# Altium schematic symbol library Schematic Diagrams.SchLib: 401 symbols (part 6 of 11)
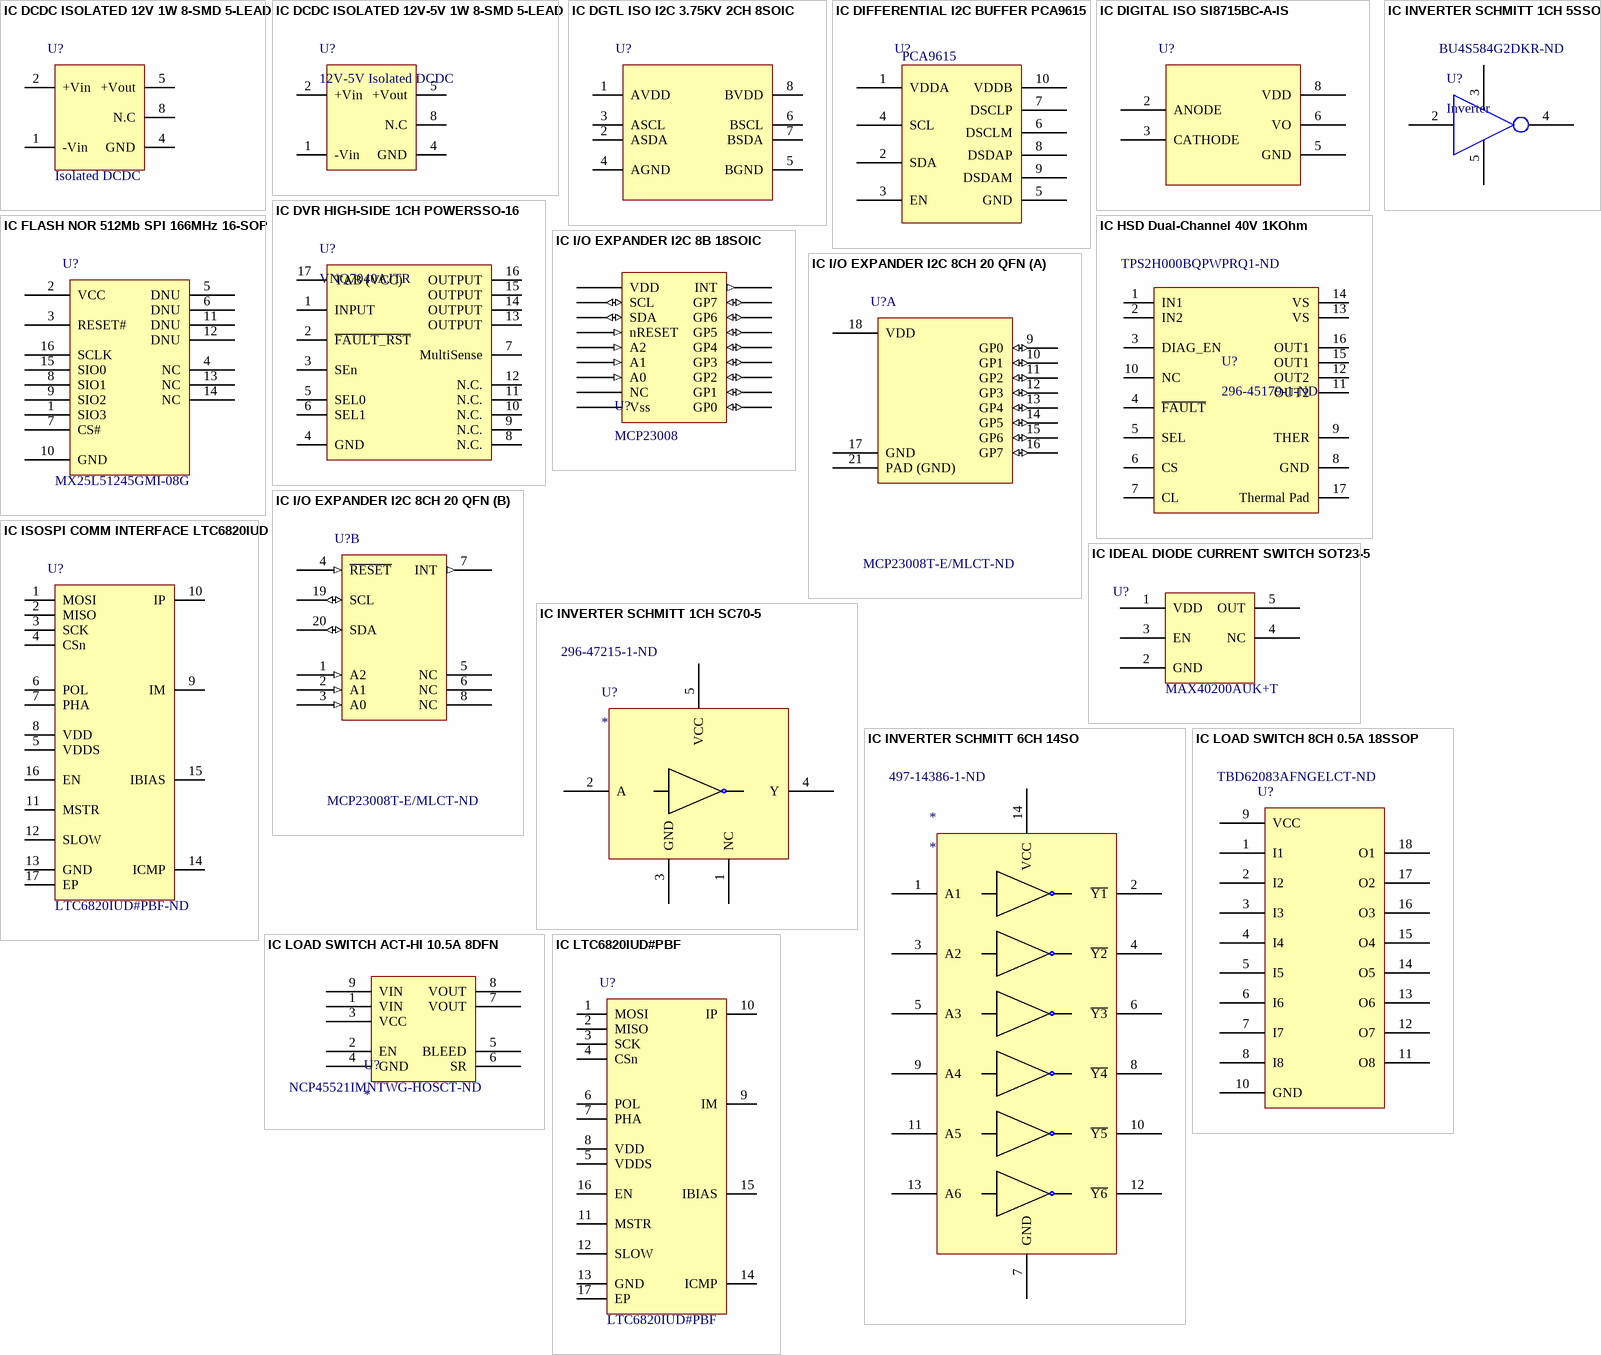
[diagram p19: symbols IC DCDC ISOLATED 12V 1W 8-SMD 5-LEAD to IC LTC6820IUD#PBF]

## IC INVERTER SCHMITT 1CH 5SSOP
designator U?, comment Inverter  Supplier Part Number 1: BU4S584G2DKR-ND
Inverter IC 1 Channel Schmitt Trigger 5-SSOP; Manufacturer: Rohm; Manufacturer Part Number: BU4S584G2-TR; Number of Inputs: 1; Min Supply Voltage: 3V; Max Supply Voltage: 16V; Logic Function: Schmitt Trigger,Buffer,Inverter; Propagation Delay: 50ns; Quiescent Current: 1uA; High Level Output Current: 3.4mA; Supplier 1: Digi-Key; Stock 1: 28906; Pricing 1: 1=0.68, 10=0.571, 25=0.4996, 100=0.4283, 250=0.37116, 500=0.31406, 1000=0.24269 (USD); Mount: Surface Mount; Case/Package: SSOP; Number of Pins: 5; Contact Plating: Copper,Tin; Min Operating Temperature: -40°C; Max Operating Temperature: 85°C; Packaging: Tape and Reel; Number of Elements: 1; Package Quantity: 3000; Number of Circuits: 1; Low Level Output Current: 3.4mA; Turn-On Delay Time: 50ns; Number of Gates: 1; Radiation Hardening: No; REACH SVHC: Unknown; Lead Free: Lead Free; ComponentLink1URL: https://datasheet.ciiva.com/16203/bu4s584g2-e-16203782.pdf; ComponentLink1Description: https://datasheet.ciiva.com/16203/bu4s584g2-e-16203782.pdf; ComponentLink2URL: https://datasheet.ciiva.com/8247/bu4s01g2-e-8247480.pdf; ComponentLink2Description: https://datasheet.ciiva.com/8247/bu4s01g2-e-8247480.pdf; ComponentLink3URL: https://datasheet.ciiva.com/1863/bu4s01g2-e-1863485.pdf; ComponentLink3Description: https://datasheet.ciiva.com/1863/bu4s01g2-e-1863485.pdf; ComponentLink4URL: https://datasheet.ciiva.com/1863/bu4s01g2-e-1863486.pdf; ComponentLink4Description: https://datasheet.ciiva.com/1863/bu4s01g2-e-1863486.pdf; ComponentLink5URL: https://datasheet.ciiva.com/15089/getdatasheetpartid-451247-15089726.pdf; ComponentLink5Description: https://datasheet.ciiva.com/15089/getdatasheetpartid-451247-15089726.pdf; ComponentLink6URL: https://datasheet.ciiva.com/1863/bu4s01g2-e-1863487.pdf; ComponentLink6Description: https://datasheet.ciiva.com/1863/bu4s01g2-e-1863487.pdf; ComponentLink7URL: https://datasheet.ciiva.com/26865/bu4s584g2-tr-26865344.pdf; ComponentLink7Description: https://datasheet.ciiva.com/26865/bu4s584g2-tr-26865344.pdf; ComponentLink8URL: https://datasheet.ciiva.com/26326/140506-da-01-en-ic-bu4s584g2-tr-ssop5-26326013.pdf; ComponentLink8Description: https://datasheet.ciiva.com/26326/140506-da-01-en-ic-bu4s584g2-tr-ssop5-26326013.pdf
footprint SSOP5 - Inverter (SSOP5, 5-Leads, Body 2.90x2.80mm, Pitch 0.95mm, IPC Medium Density)
pins: 2 B, 3 VSS, 4 Y, 5 VDD

## IC INVERTER SCHMITT 1CH SC70-5
designator U?  Supplier Part Number 1: 296-47215-1-ND
Inverter IC 1 Channel Schmitt Trigger SC-70-5; Manufacturer: Texas Instruments; Manufacturer Part Number: SN74LVC1G14QDCKRQ1; Number of Circuits: 1; Quiescent Current: 10uA; High Level Output Current: 32mA; Propagation Delay: 6ns; Supplier 1: Digi-Key; RoHS: Yes; Stock 1: 16175; Pricing 1: 1 = 0.36000, 10 = 0.29000, 100 = 0.19780, 500 = 0.14832, 1000 = 0.11124 (USD); Mount: Surface Mount; Min Operating Temperature: -40°C; Max Operating Temperature: 125°C; Packaging: Tape and Reel; Number of Inputs: 1; Low Level Output Current: 32mA; Logic Function: Inverter; Number of Bits: 1; Lead Free: Lead Free; ComponentLink1URL: http://www.ti.com/lit/ds/symlink/sn74lvc1g14-q1.pdf?src-supplier=Digi-Key; ComponentLink1Description: http://www.ti.com/lit/ds/symlink/sn74lvc1g14-q1.pdf?src-supplier=Digi-Key
footprint IC INVERTER SCHMITT 1CH SC70-5 (Inverter IC 1 Channel Schmitt Trigger SC-70-5)
pins: 1 NC, 2 A, 3 GND, 4 Y, 5 VCC

## IC INVERTER SCHMITT 6CH 14SO
designator *  Supplier Part Number 1: 497-14386-1-ND
Inverter IC 6 Channel Schmitt Trigger 14-SO; Manufacturer: STMicroelectronics; Manufacturer Part Number: M74HC14YRM13TR; Number of Inputs: 6; Propagation Delay: 21ns; Max Supply Voltage: 6V; Min Supply Voltage: 2V; Quiescent Current: 1uA; High Level Output Current: -5.2mA; Low Level Output Current: 5.2mA; Turn-On Delay Time: 190ns; ComponentLink1Description: Digikey; ComponentLink1URL: https://www.digikey.ca/product-detail/en/stmicroelectronics/M74HC14YTTR/497-14387-1-ND/4725844; ComponentLink2URL: http://www.st.com/content/ccc/resource/technical/document/datasheet/19/a3/52/42/dd/ab/4b/46/CD00000263.pdf/files/CD00000263.pdf/jcr:content/translations/en.CD00000263.pdf; ComponentLink2Description: http://www.st.com/content/ccc/resource/technical/document/datasheet/19/a3/52/42/dd/ab/4b/46/CD00000263.pdf/files/CD00000263.pdf/jcr:content/translations/en.CD00000263.pdf; ComponentLink3URL: http://www.st.com/st-web-ui/static/active/en/resource/technical/document/datasheet/CD00000263.pdf; ComponentLink3Description: http://www.st.com/st-web-ui/static/active/en/resource/technical/document/datasheet/CD00000263.pdf; ComponentLink4URL: http://www.st.com/content/ccc/resource/technical/document/datasheet/19/a3/52/42/dd/ab/4b/46/CD00000263.pdf/files/CD00000263.pdf/jcr:content/translations/en.CD00000263.pdf?src-supplier=Digi-Key; ComponentLink4Description: http://www.st.com/content/ccc/resource/technical/document/datasheet/19/a3/52/42/dd/ab/4b/46/CD00000263.pdf/files/CD00000263.pdf/jcr:content/translations/en.CD00000263.pdf?src-supplier=Digi-Key; ComponentLink5URL: http://www.st.com/st-web-ui/static/active/en/resource/technical/document/datasheet/CD00000263.pdf?src-supplier=Avnet; ComponentLink5Description: http://www.st.com/st-web-ui/static/active/en/resource/technical/document/datasheet/CD00000263.pdf?src-supplier=Avnet; Supplier 1: Digi-Key; RoHS: Yes; Stock 1: 26383; Pricing 1: 1 = 0.48000, 10 = 0.41300, 100 = 0.30860, 500 = 0.24246, 1000 = 0.18736 (USD); Mount: Surface Mount; Case/Package: SO; Number of Pins: 14; Weight: 0.009143oz; Min Operating Temperature: -40°C; Max Operating Temperature: 125°C; Package Quantity: 2500; Packaging: Tape and Reel; Logic Function: Inverter; Number of Elements: 6; Number of Circuits: 6; ComponentLink6URL: https://datasheet.ciiva.com/29626/cd00000263-29626103.pdf?src-supplier=Digi-Key; ComponentLink6Description: https://datasheet.ciiva.com/29626/cd00000263-29626103.pdf?src-supplier=Digi-Key; ComponentLink7URL: https://datasheet.ciiva.com/48438/cd00000263-48438311.pdf?src-supplier=Avnet; ComponentLink7Description: https://datasheet.ciiva.com/48438/cd00000263-48438311.pdf?src-supplier=Avnet; ComponentLink8URL: https://datasheet.ciiva.com/29626/cd00000263-29626104.pdf?src-supplier=Digi-Key; ComponentLink8Description: https://datasheet.ciiva.com/29626/cd00000263-29626104.pdf?src-supplier=Digi-Key; ComponentLink9URL: https://datasheet.ciiva.com/29626/cd00000263-29626094.pdf?src-supplier=Digi-Key; ComponentLink9Description: https://datasheet.ciiva.com/29626/cd00000263-29626094.pdf?src-supplier=Digi-Key
footprint IC INVERTER SCHMITT 6CH 14SO (Inverter IC 6 Channel Schmitt Trigger 14-SO)
pins: 1 A1, 2 ~{Y1}, 3 A2, 4 ~{Y2}, 5 A3, 6 ~{Y3}, 7 GND, 8 ~{Y4}, 9 A4, 10 ~{Y5}, 11 A5, 12 ~{Y6}, 13 A6, 14 VCC

## IC ISOSPI COMM INTERFACE LTC6820IUD
designator U?  Supplier Part Number 1: LTC6820IUD#PBF-ND  (hidden comment: *)
IC COMM INTERFACE ISOSPI 16-QFN; Manufacturer: Linear Technology; Manufacturer Part Number: LTC6820IUD#PBF; Interface: SPI; Voltage - Supply: 2.7 V ~ 5.5 V; Supplier 1: Digi-Key; RoHS: RoHS Compliant; Category: Integrated Circuits (ICs); Stock 1: 827; Pricing 1: 1=7.35, 25=4.8816, 100=4.0066 (CAD); Packaging: Tube; Part Status: Active; Applications: Isolated Communications Interface; Package / Case: 16-WFQFN Exposed Pad; Supplier Device Package: 16-QFN (3x3); Mounting Type: Surface Mount; ComponentLink1URL: http://www.linear.com/docs/42317; ComponentLink1Description: http://www.linear.com/docs/42317
footprint IC COMM INTERFACE ISOSPI 16-QFN (16-WFQFN Exposed Pad)
pins: 1 MOSI, 2 MISO, 3 SCK, 4 CSn, 5 VDDS, 6 POL, 7 PHA, 8 VDD, 9 IM, 10 IP, 11 MSTR, 12 SLOW, 13 GND, 14 ICMP, 15 IBIAS, 16 EN, 17 EP

## IC LOAD SWITCH 8CH 0.5A 18SSOP
designator U?  Supplier Part Number 1: TBD62083AFNGELCT-ND  (hidden comment: *)
IC LOAD SWITCH 8CHANNEL 0.5A 18SSOP; Manufacturer: Toshiba; Manufacturer Part Number: TBD62083AFNG,EL; Number of Outputs: 8; Interface: On/Off; Output Configuration: Low Side; ComponentLink1URL: http://www.mouser.com/ds/2/408/TBD62783APG_datasheet_en_20160511-775715.pdf?src-supplier=Mouser; ComponentLink1Description: http://www.mouser.com/ds/2/408/TBD62783APG_datasheet_en_20160511-775715.pdf?src-supplier=Mouser; ComponentLink2URL: https://toshiba.semicon-storage.com/info/docget.jsp?did=30523&prodName=TBD62783AFG&src-supplier=Digi-Key; ComponentLink2Description: https://toshiba.semicon-storage.com/info/docget.jsp?did=30523&prodName=TBD62783AFG&src-supplier=Digi-Key; ComponentLink3URL: http://www.toshiba.semicon-storage.com/info/docget.jsp?did=14247&src-supplier=Digi-Key; ComponentLink3Description: http://www.toshiba.semicon-storage.com/info/docget.jsp?did=14247&src-supplier=Digi-Key; Supplier 1: Digi-Key; RoHS: Yes; Stock 1: 61183; Pricing 1: 1 = 0.78000, 10 = 0.68500, 25 = 0.60680, 100 = 0.52840, 250 = 0.45988, 500 = 0.39140, 1000 = 0.31312 (USD); Case/Package: LSSOP; Number of Pins: 18; Min Operating Temperature: -40°C; Max Operating Temperature: 85°C; Packaging: Tape and Reel; ComponentLink4URL: https://toshiba.semicon-storage.com/info/docget.jsp?did=29893&prodName=TBD62083AFG&src-supplier=Digi-Key; ComponentLink4Description: https://toshiba.semicon-storage.com/info/docget.jsp?did=29893&prodName=TBD62083AFG&src-supplier=Digi-Key
footprint IC LOAD SWITCH 8CH 0.5A 18-SSOP (TSOP, 18-Leads, Body 6.70x4.40mm, Pitch 0.65mm, IPC Medium Density)
pins: 1 I1, 2 I2, 3 I3, 4 I4, 5 I5, 6 I6, 7 I7, 8 I8, 9 VCC, 10 GND, 11 O8, 12 O7, 13 O6, 14 O5, 15 O4, 16 O3, 17 O2, 18 O1

## IC LOAD SWITCH ACT-HI 10.5A 8DFN
designator U?  Supplier Part Number 1: NCP45521IMNTWG-HOSCT-ND
NCP45521IMNTWG-H; Manufacturer: ON Semiconductor; Max Power Dissipation: 2.5W; Number of Outputs: 1; Nominal Supply Current: 500uA; Output Current: 10.5A; On-State Resistance: 22.5mR; Turn-On Delay Time: 270us; Turn-Off Delay Time: 1.2us; Interface: On/Off; Fault Protection: Over Temperature; Operating Supply Voltage: 5.5V; Output Configuration: High Side; Supplier 1: Digi-Key; Manufacturer Part Number: NCP45521IMNTWG-H; RoHS: Yes; Pricing 1: 1 = 0.87000, 10 = 0.77400, 100 = 0.60360, 500 = 0.49864, 1000 = 0.39366 (USD); Mount: Surface Mount; Case/Package: DFN; Number of Pins: 8; Min Operating Temperature: -40°C; Max Operating Temperature: 85°C; Packaging: Tape and Reel; Package Quantity: 3000; Max Supply Current: 10.5A; Max Output Current: 10.5A; Power Dissipation: 2.5W; Radiation Hardening: No; REACH SVHC: No SVHC; Lead Free: Lead Free; Halogen Free: Halogen Free; ComponentLink1URL: http://www.mouser.com/ds/2/308/NCP45520-D-211422.pdf; ComponentLink1Description: http://www.mouser.com/ds/2/308/NCP45520-D-211422.pdf; ComponentLink2URL: http://www.onsemi.com/pub/Collateral/NCP45520-D.PDF; ComponentLink2Description: http://www.onsemi.com/pub/Collateral/NCP45520-D.PDF
footprint IC LOAD SWITCH ACT-HI 10.5A 8DFN
pins: 1 VIN, 2 EN, 3 VCC, 4 GND, 5 BLEED, 6 SR, 7 VOUT, 8 VOUT, 9 VIN

## IC LTC6820IUD#PBF
designator U?  Manufacturer_PN: LTC6820IUD#PBF  (hidden comment: *)
IC COMM INTERFACE ISOSPI 16-QFN; Manufacturer: Linear Technology; Supplier: Digikey; Supplier_PN: LTC6820IUD#PBF-ND; Supplier 1: Digi-Key; Supplier Part Number 1: LTC6820IUD#PBF-ND
pins: 1 MOSI, 2 MISO, 3 SCK, 4 CSn, 5 VDDS, 6 POL, 7 PHA, 8 VDD, 9 IM, 10 IP, 11 MSTR, 12 SLOW, 13 GND, 14 ICMP, 15 IBIAS, 16 EN, 17 EP

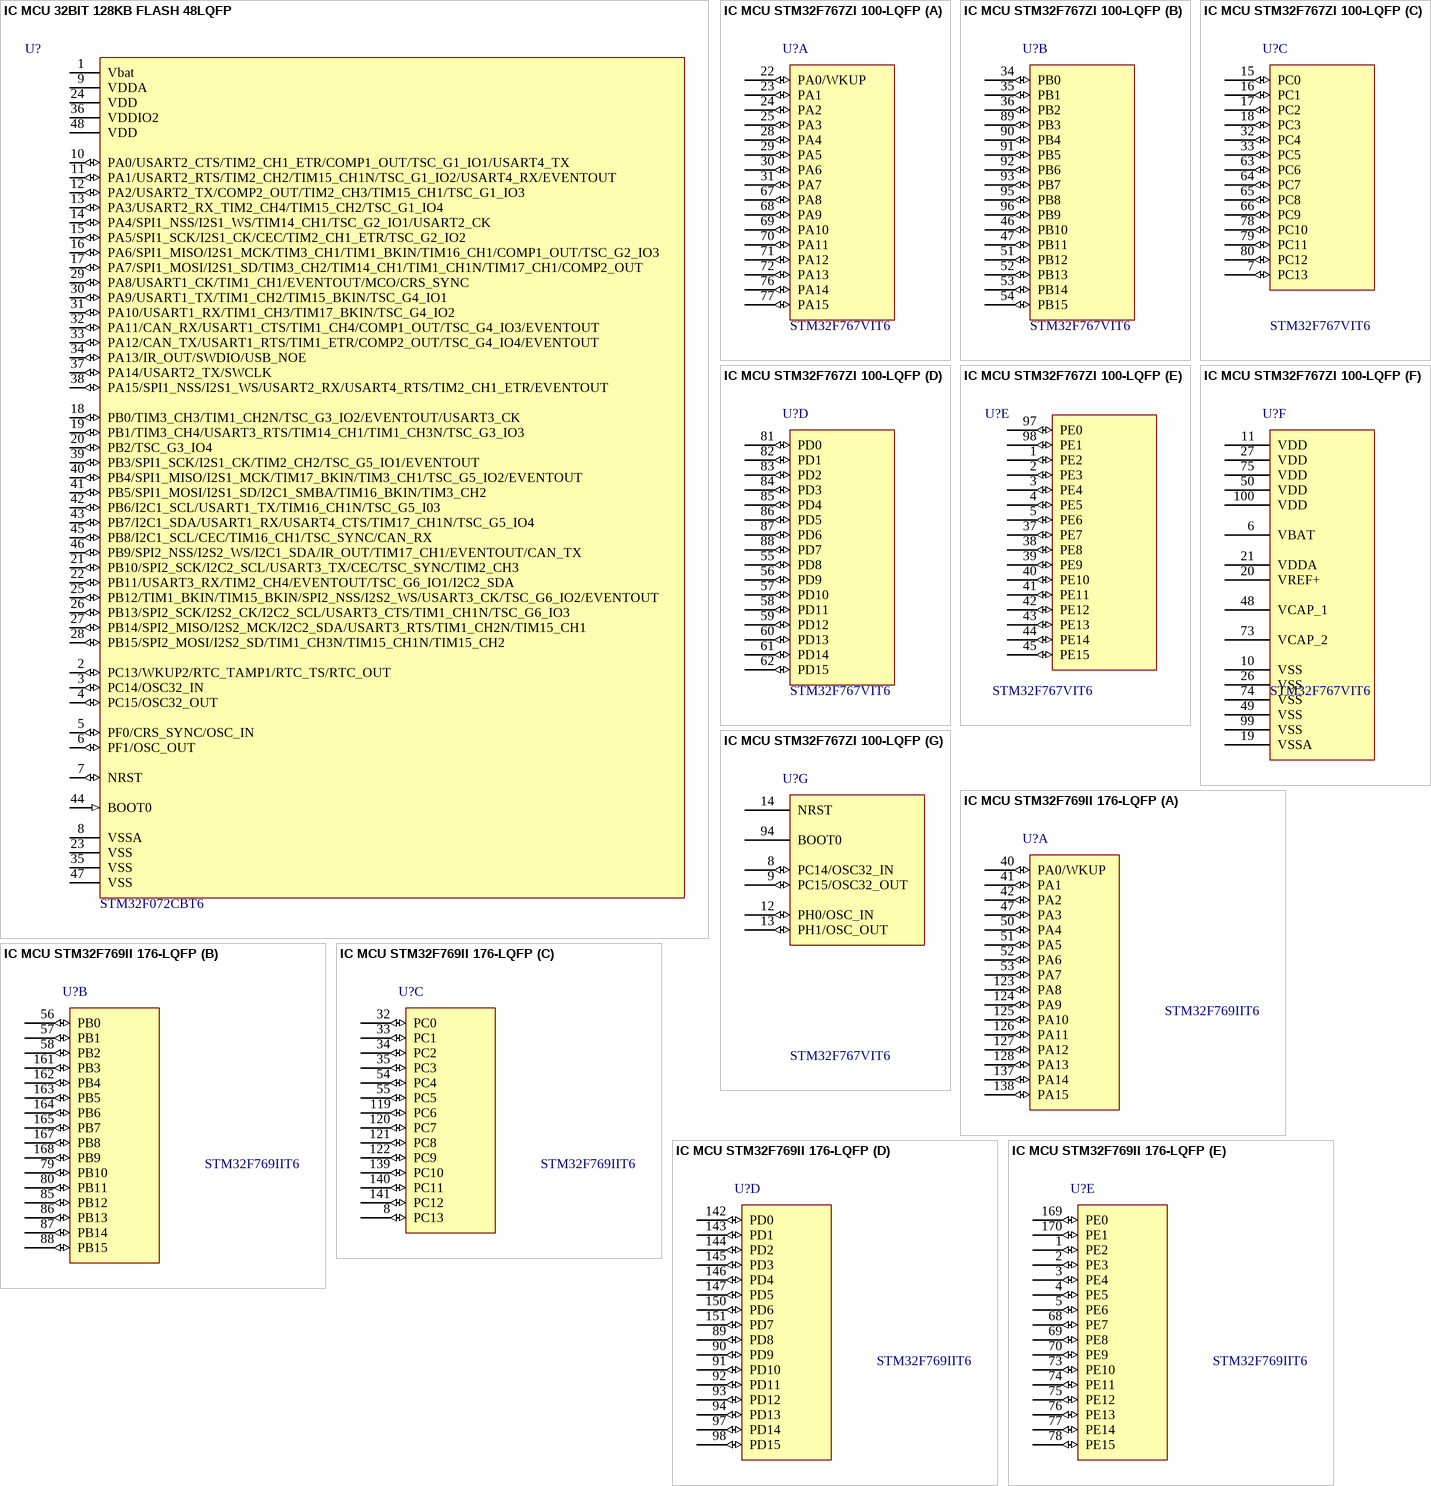
[diagram p7: symbols IC MCU 32BIT 128KB FLASH 48LQFP to IC MCU STM32F769II 176-LQFP]

## IC MCU 32BIT 128KB FLASH 48LQFP
designator U?  Manufacturer Part Number 1: STM32F072CBT6
ARM® Cortex®-M0 STM32 F0 Microcontroller IC 32-Bit 48MHz 128KB (128K x 8) FLASH 48-LQFP (7x7); Manufacturer 1: STMicroelectronics; Connectivity: CAN, HDMI-CEC, I²C, IrDA, LIN, SPI, UART/USART, USB; Peripherals: DMA, I²S, POR, PWM, WDT; Number of I/O: 37; RAM Size: 16K x 8; Voltage - Supply (Vcc/Vdd): 1.65 V ~ 3.6 V; Data Converters: A/D 10x12b, D/A 2x12b; Oscillator Type: Internal; Supplier 1: Digi-Key; Supplier Part Number 1: 497-14645-ND; Packaging: Tray; Part Status: Active; Core Processor: ARM® Cortex®-M0; Core Size: 32-Bit; Speed: 48MHz; Program Memory Size: 128KB (128K x 8); Program Memory Type: FLASH; EEPROM Size: -; Operating Temperature: -40°C ~ 85°C (TA); Package / Case: 48-LQFP; Supplier Device Package: 48-LQFP (7x7); ComponentLink1URL: http://www.st.com/content/ccc/resource/technical/document/datasheet/cd/46/43/83/22/d3/40/c8/DM00090510.pdf/files/DM00090510.pdf/jcr:content/translations/en.DM00090510.pdf; ComponentLink1Description: http://www.st.com/content/ccc/resource/technical/document/datasheet/cd/46/43/83/22/d3/40/c8/DM00090510.pdf/files/DM00090510.pdf/jcr:content/translations/en.DM00090510.pdf
footprint TSQFP50P890X890X160-48M (TSQFP, 48-Leads, Body 7.00x7.00mm, Pitch 0.50mm, IPC Low Density)
pins: 1 Vbat (power), 2 PC13/WKUP2/RTC_TAMP1/RTC_TS/RTC_OUT (io), 3 PC14/OSC32_IN (io), 4 PC15/OSC32_OUT (io), 5 PF0/CRS_SYNC/OSC_IN (io), 6 PF1/OSC_OUT (io), 7 NRST (io), 8 VSSA (power), 9 VDDA (power), 10 PA0/USART2_CTS/TIM2_CH1_ETR/COMP1_OUT/TSC_G1_IO1/USART4_TX (io), 11 PA1/USART2_RTS/TIM2_CH2/TIM15_CH1N/TSC_G1_IO2/USART4_RX/EVENTOUT (io), 12 PA2/USART2_TX/COMP2_OUT/TIM2_CH3/TIM15_CH1/TSC_G1_IO3 (io), 13 PA3/USART2_RX_TIM2_CH4/TIM15_CH2/TSC_G1_IO4 (io), 14 PA4/SPI1_NSS/I2S1_WS/TIM14_CH1/TSC_G2_IO1/USART2_CK (io), 15 PA5/SPI1_SCK/I2S1_CK/CEC/TIM2_CH1_ETR/TSC_G2_IO2 (io), 16 PA6/SPI1_MISO/I2S1_MCK/TIM3_CH1/TIM1_BKIN/TIM16_CH1/COMP1_OUT/TSC_G2_IO3 (io), 17 PA7/SPI1_MOSI/I2S1_SD/TIM3_CH2/TIM14_CH1/TIM1_CH1N/TIM17_CH1/COMP2_OUT (io), 18 PB0/TIM3_CH3/TIM1_CH2N/TSC_G3_IO2/EVENTOUT/USART3_CK (io), 19 PB1/TIM3_CH4/USART3_RTS/TIM14_CH1/TIM1_CH3N/TSC_G3_IO3 (io), 20 PB2/TSC_G3_IO4 (io), 21 PB10/SPI2_SCK/I2C2_SCL/USART3_TX/CEC/TSC_SYNC/TIM2_CH3 (io), 22 PB11/USART3_RX/TIM2_CH4/EVENTOUT/TSC_G6_IO1/I2C2_SDA (io), 23 VSS (power), 24 VDD (power), 25 PB12/TIM1_BKIN/TIM15_BKIN/SPI2_NSS/I2S2_WS/USART3_CK/TSC_G6_IO2/EVENTOUT (io), 26 PB13/SPI2_SCK/I2S2_CK/I2C2_SCL/USART3_CTS/TIM1_CH1N/TSC_G6_IO3 (io), 27 PB14/SPI2_MISO/I2S2_MCK/I2C2_SDA/USART3_RTS/TIM1_CH2N/TIM15_CH1 (io), 28 PB15/SPI2_MOSI/I2S2_SD/TIM1_CH3N/TIM15_CH1N/TIM15_CH2 (io), 29 PA8/USART1_CK/TIM1_CH1/EVENTOUT/MCO/CRS_SYNC (io), 30 PA9/USART1_TX/TIM1_CH2/TIM15_BKIN/TSC_G4_IO1 (io), 31 PA10/USART1_RX/TIM1_CH3/TIM17_BKIN/TSC_G4_IO2 (io), 32 PA11/CAN_RX/USART1_CTS/TIM1_CH4/COMP1_OUT/TSC_G4_IO3/EVENTOUT (io), 33 PA12/CAN_TX/USART1_RTS/TIM1_ETR/COMP2_OUT/TSC_G4_IO4/EVENTOUT (io), 34 PA13/IR_OUT/SWDIO/USB_NOE (io), 35 VSS (power), 36 VDDIO2 (power), 37 PA14/USART2_TX/SWCLK (io), 38 PA15/SPI1_NSS/I2S1_WS/USART2_RX/USART4_RTS/TIM2_CH1_ETR/EVENTOUT (io), 39 PB3/SPI1_SCK/I2S1_CK/TIM2_CH2/TSC_G5_IO1/EVENTOUT (io), 40 PB4/SPI1_MISO/I2S1_MCK/TIM17_BKIN/TIM3_CH1/TSC_G5_IO2/EVENTOUT (io), 41 PB5/SPI1_MOSI/I2S1_SD/I2C1_SMBA/TIM16_BKIN/TIM3_CH2 (io), 42 PB6/I2C1_SCL/USART1_TX/TIM16_CH1N/TSC_G5_I03 (io), 43 PB7/I2C1_SDA/USART1_RX/USART4_CTS/TIM17_CH1N/TSC_G5_IO4 (io), 44 BOOT0 (in), 45 PB8/I2C1_SCL/CEC/TIM16_CH1/TSC_SYNC/CAN_RX (io), 46 PB9/SPI2_NSS/I2S2_WS/I2C1_SDA/IR_OUT/TIM17_CH1/EVENTOUT/CAN_TX (io), 47 VSS (power), 48 VDD (power)

## IC MCU STM32F767ZI 100-LQFP
designator U?  Manufacturer Part Number: STM32F767VIT6  (hidden comment: *)
ARM® Cortex®-M7 STM32F7 Microcontroller IC 32-Bit 216MHz 2MB (2M x 8) FLASH 100-LQFP (14x14); Manufacturer: STMicroelectronics; RAM Size: 512KB; Number of I/Os: 82; Min Supply Voltage: 1.7V; Max Supply Voltage: 3.6V; Supplier 1: Digi-Key; Supplier Part Number 1: 497-16643-ND; Stock 1: 2856; Pricing 1: 1 = 15.00000, 10 = 13.79000, 100 = 11.64640, 540 = 10.36026 (USD); RoHS: No; Case/Package: LQFP; Number of Pins: 100; Frequency: 216MHz; Memory Size: 2MB; REACH SVHC: No SVHC; ComponentLink1URL: http://farnell.com//datasheets/2282439.pdf?src-supplier=Farnell; ComponentLink1Description: http://farnell.com//datasheets/2282439.pdf?src-supplier=Farnell; ComponentLink2URL: http://www.farnell.com/datasheets/2034586.pdf?src-supplier=Element14; ComponentLink2Description: http://www.farnell.com/datasheets/2034586.pdf?src-supplier=Element14; ComponentLink3URL: http://www.st.com/content/ccc/resource/technical/document/datasheet/group3/c5/37/9c/1d/a6/09/4e/1a/DM00273119/files/DM00273119.pdf/jcr:content/translations/en.DM00273119.pdf?src-supplier=Digi-Key; ComponentLink3Description: http://www.st.com/content/ccc/resource/technical/document/datasheet/group3/c5/37/9c/1d/a6/09/4e/1a/DM00273119/files/DM00273119.pdf/jcr:content/translations/en.DM00273119.pdf?src-supplier=Digi-Key
footprint IC MCU STM32F767 100-LQFP (CQFP, 100-Leads, Body 16.00x16.00mm, Pitch 0.50mm, IPC Low Density)
part A pins: 22 PA0/WKUP (io), 23 PA1 (io), 24 PA2 (io), 25 PA3 (io), 28 PA4 (io), 29 PA5 (io), 30 PA6 (io), 31 PA7 (io), 67 PA8 (io), 68 PA9 (io), 69 PA10 (io), 70 PA11 (io), 71 PA12 (io), 72 PA13 (io), 76 PA14 (io), 77 PA15 (io)
part B pins: 34 PB0 (io), 35 PB1 (io), 36 PB2 (io), 46 PB10 (io), 47 PB11 (io), 51 PB12 (io), 52 PB13 (io), 53 PB14 (io), 54 PB15 (io), 89 PB3 (io), 90 PB4 (io), 91 PB5 (io), 92 PB6 (io), 93 PB7 (io), 95 PB8 (io), 96 PB9 (io)
part C pins: 7 PC13 (io), 15 PC0 (io), 16 PC1 (io), 17 PC2 (io), 18 PC3 (io), 32 PC4 (io), 33 PC5 (io), 63 PC6 (io), 64 PC7 (io), 65 PC8 (io), 66 PC9 (io), 78 PC10 (io), 79 PC11 (io), 80 PC12 (io)
part D pins: 55 PD8 (io), 56 PD9 (io), 57 PD10 (io), 58 PD11 (io), 59 PD12 (io), 60 PD13 (io), 61 PD14 (io), 62 PD15 (io), 81 PD0 (io), 82 PD1 (io), 83 PD2 (io), 84 PD3 (io), 85 PD4 (io), 86 PD5 (io), 87 PD6 (io), 88 PD7 (io)
part E pins: 1 PE2 (io), 2 PE3 (io), 3 PE4 (io), 4 PE5 (io), 5 PE6 (io), 37 PE7 (io), 38 PE8 (io), 39 PE9 (io), 40 PE10 (io), 41 PE11 (io), 42 PE12 (io), 43 PE13 (io), 44 PE14 (io), 45 PE15 (io), 97 PE0 (io), 98 PE1 (io)
part F pins: 6 VBAT (power), 10 VSS (power), 11 VDD (power), 19 VSSA (power), 20 VREF+ (power), 21 VDDA (power), 26 VSS (power), 27 VDD (power), 48 VCAP_1 (power), 49 VSS (power), 50 VDD (power), 73 VCAP_2 (power), 74 VSS (power), 75 VDD (power), 99 VSS (power), 100 VDD (power)
part G pins: 8 PC14/OSC32_IN (io), 9 PC15/OSC32_OUT (io), 12 PH0/OSC_IN (io), 13 PH1/OSC_OUT (io), 14 NRST, 94 BOOT0

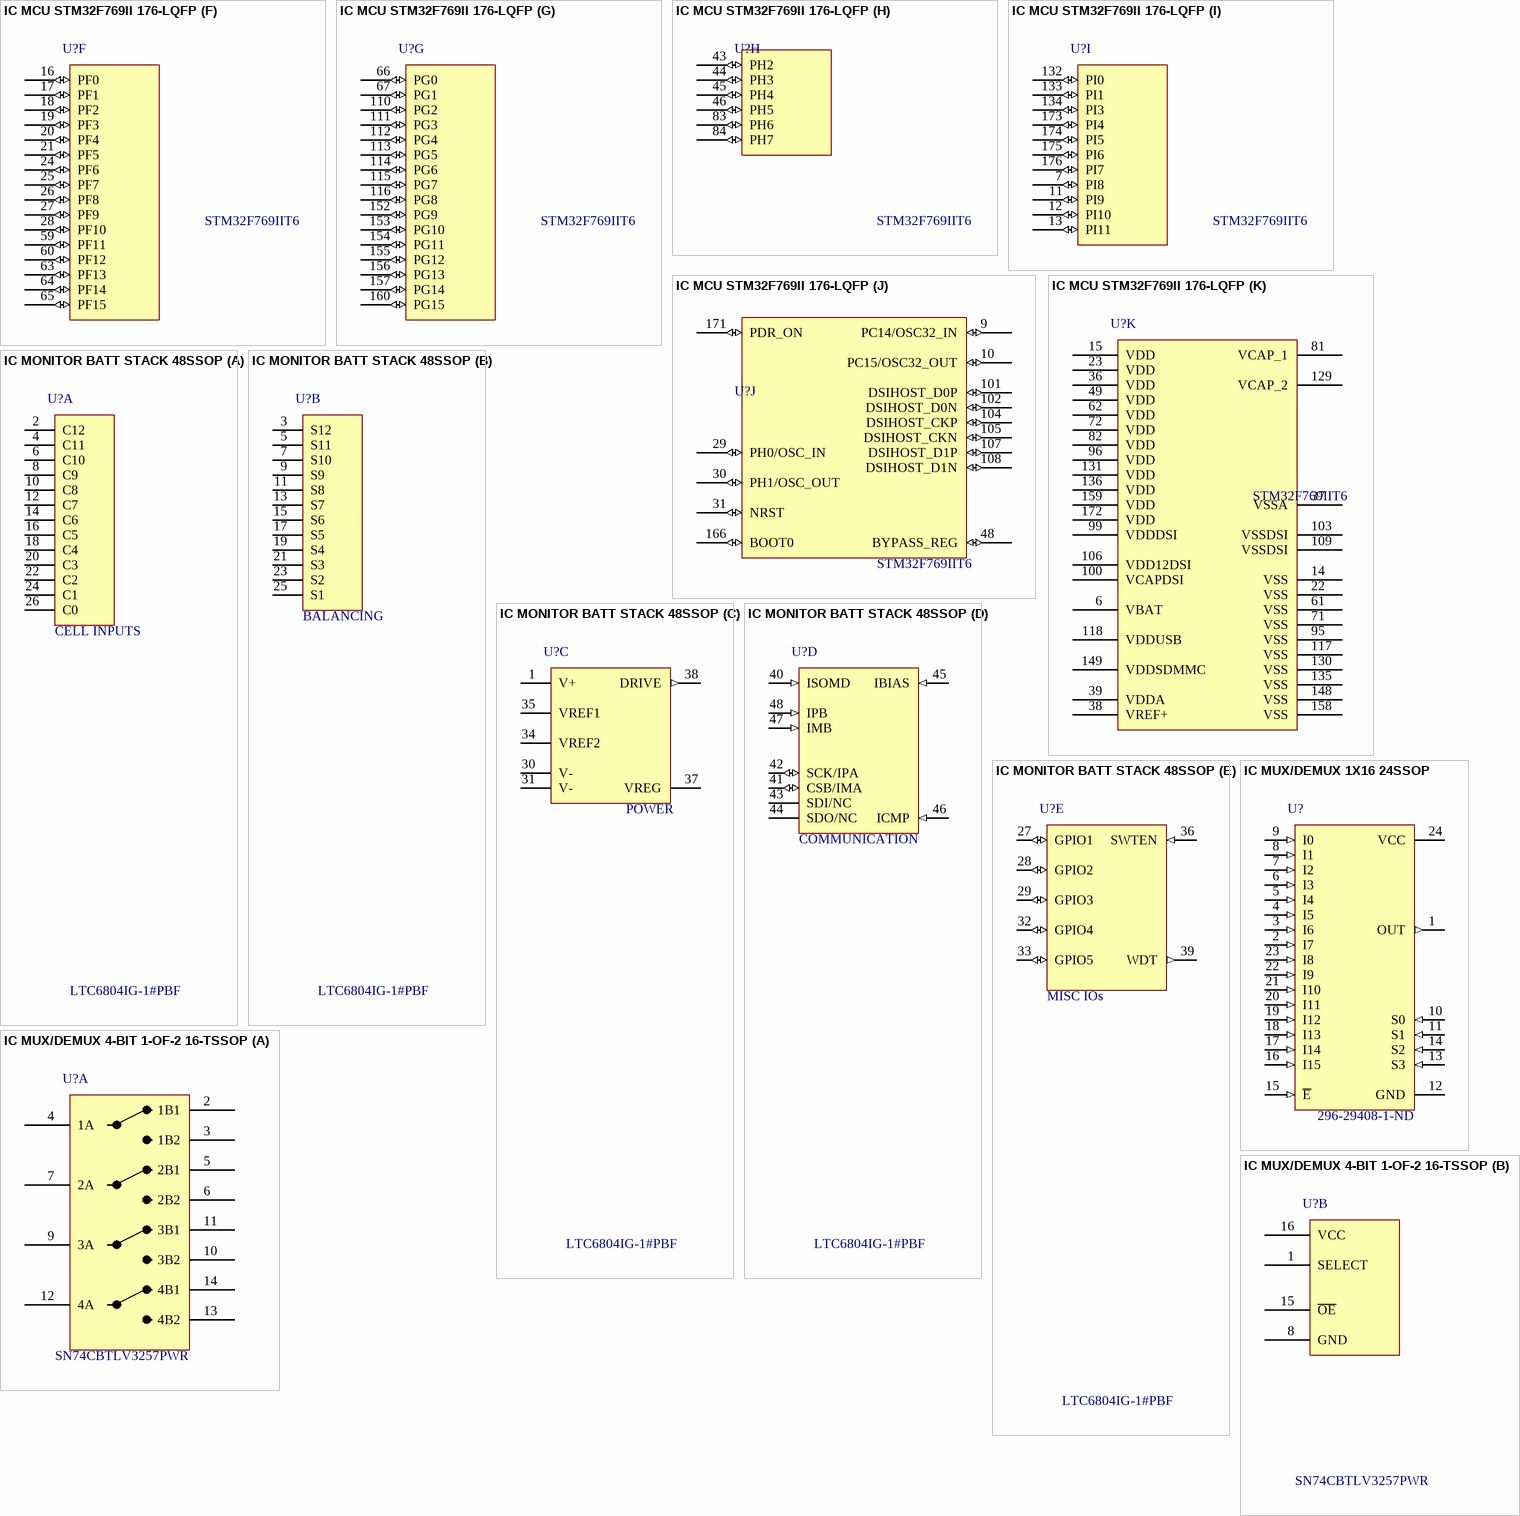
[diagram p8: symbols IC MCU STM32F769II 176-LQFP to IC MUX/DEMUX 4-BIT 1-OF-2 16-TSSOP]

## IC MCU STM32F769II 176-LQFP
designator U?  Manufacturer Part Number: STM32F769IIT6  (hidden comment: *)
ARM® Cortex®-M7 STM32F7 Microcontroller IC 32-Bit 216MHz 2MB (2M x 8) FLASH 176-LQFP (24x24); Manufacturer: STMicroelectronics; Supplier 1: Digi-Key; RoHS: No; Category: Microcontrollers; Stock 1: 295; Pricing 1: 1=12.69000, 10=11.66300, 25=11.18000, 100=9.85040, 250=9.36696, 500=8.76264, 1000=8.03746 (USD); ComponentLink1URL: http://www.st.com/content/ccc/resource/technical/document/errata_sheet/group0/23/a6/11/0b/30/24/46/a5/DM00257543/files/DM00257543.pdf/jcr:content/translations/en.DM00257543.pdf?src-supplier=Digi-Key; ComponentLink1Description: http://www.st.com/content/ccc/resource/technical/document/errata_sheet/group0/23/a6/11/0b/30/24/46/a5/DM00257543/files/DM00257543.pdf/jcr:content/translations/en.DM00257543.pdf?src-supplier=Digi-Key; Supplier Part Number 1: 497-16649-ND
footprint TSQFP50P2600X2600X160-176M (TSQFP, 176-Leads, Body 24.00x24.00mm, Pitch 0.50mm, IPC Low Density)
part A pins: 40 PA0/WKUP (io), 41 PA1 (io), 42 PA2 (io), 47 PA3 (io), 50 PA4 (io), 51 PA5 (io), 52 PA6 (io), 53 PA7 (io), 123 PA8 (io), 124 PA9 (io), 125 PA10 (io), 126 PA11 (io), 127 PA12 (io), 128 PA13 (io), 137 PA14 (io), 138 PA15 (io)
part B pins: 56 PB0 (io), 57 PB1 (io), 58 PB2 (io), 79 PB10 (io), 80 PB11 (io), 85 PB12 (io), 86 PB13 (io), 87 PB14 (io), 88 PB15 (io), 161 PB3 (io), 162 PB4 (io), 163 PB5 (io), 164 PB6 (io), 165 PB7 (io), 167 PB8 (io), 168 PB9 (io)
part C pins: 8 PC13 (io), 32 PC0 (io), 33 PC1 (io), 34 PC2 (io), 35 PC3 (io), 54 PC4 (io), 55 PC5 (io), 119 PC6 (io), 120 PC7 (io), 121 PC8 (io), 122 PC9 (io), 139 PC10 (io), 140 PC11 (io), 141 PC12 (io)
part D pins: 89 PD8 (io), 90 PD9 (io), 91 PD10 (io), 92 PD11 (io), 93 PD12 (io), 94 PD13 (io), 97 PD14 (io), 98 PD15 (io), 142 PD0 (io), 143 PD1 (io), 144 PD2 (io), 145 PD3 (io), 146 PD4 (io), 147 PD5 (io), 150 PD6 (io), 151 PD7 (io)
part E pins: 1 PE2 (io), 2 PE3 (io), 3 PE4 (io), 4 PE5 (io), 5 PE6 (io), 68 PE7 (io), 69 PE8 (io), 70 PE9 (io), 73 PE10 (io), 74 PE11 (io), 75 PE12 (io), 76 PE13 (io), 77 PE14 (io), 78 PE15 (io), 169 PE0 (io), 170 PE1 (io)
part F pins: 16 PF0 (io), 17 PF1 (io), 18 PF2 (io), 19 PF3 (io), 20 PF4 (io), 21 PF5 (io), 24 PF6 (io), 25 PF7 (io), 26 PF8 (io), 27 PF9 (io), 28 PF10 (io), 59 PF11 (io), 60 PF12 (io), 63 PF13 (io), 64 PF14 (io), 65 PF15 (io)
part G pins: 66 PG0 (io), 67 PG1 (io), 110 PG2 (io), 111 PG3 (io), 112 PG4 (io), 113 PG5 (io), 114 PG6 (io), 115 PG7 (io), 116 PG8 (io), 152 PG9 (io), 153 PG10 (io), 154 PG11 (io), 155 PG12 (io), 156 PG13 (io), 157 PG14 (io), 160 PG15 (io)
part H pins: 43 PH2 (io), 44 PH3 (io), 45 PH4 (io), 46 PH5 (io), 83 PH6 (io), 84 PH7 (io)
part I pins: 7 PI8 (io), 11 PI9 (io), 12 PI10 (io), 13 PI11 (io), 132 PI0 (io), 133 PI1 (io), 134 PI3 (io), 173 PI4 (io), 174 PI5 (io), 175 PI6 (io), 176 PI7 (io)
part J pins: 9 PC14/OSC32_IN (io), 10 PC15/OSC32_OUT (io), 29 PH0/OSC_IN (io), 30 PH1/OSC_OUT (io), 31 NRST (io), 48 BYPASS_REG (io), 101 DSIHOST_D0P (io), 102 DSIHOST_D0N (io), 104 DSIHOST_CKP (io), 105 DSIHOST_CKN (io), 107 DSIHOST_D1P (io), 108 DSIHOST_D1N (io), 166 BOOT0 (io), 171 PDR_ON (io)
part K pins: 6 VBAT (power), 14 VSS (power), 15 VDD (power), 22 VSS (power), 23 VDD (power), 36 VDD (power), 37 VSSA (power), 38 VREF+ (power), 39 VDDA (power), 49 VDD (power), 61 VSS (power), 62 VDD (power), 71 VSS (power), 72 VDD (power), 81 VCAP_1 (power), 82 VDD (power), 95 VSS (power), 96 VDD (power), 99 VDDDSI (power), 100 VCAPDSI (power), 103 VSSDSI (power), 106 VDD12DSI (power), 109 VSSDSI (power), 117 VSS (power), 118 VDDUSB (power), 129 VCAP_2 (power), 130 VSS (power), 131 VDD (power), 135 VSS (power), 136 VDD (power), 148 VSS (power), 149 VDDSDMMC (power), 158 VSS (power), 159 VDD (power), 172 VDD (power)

## IC MONITOR BATT STACK 48SSOP
designator U?  Manufacturer Part Number 1: LTC6804IG-1#PBF
Battery Battery Monitor IC Multi-Chemistry 48-SSOP; Manufacturer 1: Linear Technology; Number of Cells: 1 ~ 12; Fault Protection: Over/Under Voltage; Interface: I²C, SPI; Supplier 1: Digi-Key; Supplier Part Number 1: LTC6804IG-1#PBF-ND; Packaging: Tube; Part Status: Active; Function: Battery Monitor; Battery Chemistry: Multi-Chemistry; Operating Temperature: -40°C ~ 85°C (TA); Package / Case: 48-FSOP (0.209", 5.30mm Width); Supplier Device Package: 48-SSOP; ComponentLink1URL: http://www.linear.com/docs/43171; ComponentLink1Description: http://www.linear.com/docs/43171
footprint SSOP50P780X200-48N (SSOP, 48-Leads, Body 12.80x5.30mm, Pitch 0.50mm, IPC Medium Density)
part A pins: 2 C12, 4 C11, 6 C10, 8 C9, 10 C8, 12 C7, 14 C6, 16 C5, 18 C4, 20 C3, 22 C2, 24 C1, 26 C0
part B pins: 3 S12, 5 S11, 7 S10, 9 S9, 11 S8, 13 S7, 15 S6, 17 S5, 19 S4, 21 S3, 23 S2, 25 S1
part C pins: 1 V+ (power), 30 V- (power), 31 V- (power), 34 VREF2 (power), 35 VREF1 (power), 37 VREG (power), 38 DRIVE (out)
part D pins: 40 ISOMD (in), 41 CSB/IMA (io), 42 SCK/IPA (io), 43 SDI/NC, 44 SDO/NC, 45 IBIAS (in), 46 ICMP (in), 47 IMB (in), 48 IPB (in)
part E pins: 27 GPIO1 (io), 28 GPIO2 (io), 29 GPIO3 (io), 32 GPIO4 (io), 33 GPIO5 (io), 36 SWTEN (in), 39 WDT (out)
part A text: CELL INPUTS
part B text: BALANCING
part C text: POWER
part D text: COMMUNICATION
part E text: MISC IOs

## IC MUX/DEMUX 1X16 24SSOP
designator U?  Supplier Part Number 1: 296-29408-1-ND
1 Circuit IC Switch 16:1 160 Ohm 24-SOIC; Manufacturer: Texas Instruments; Manufacturer Part Number: CD74HC4067M96; Number of Channels: 1; Number of Inputs: 16; Max Supply Voltage: 6V; Min Supply Voltage: 2V; Bandwidth: 89MHz; Propagation Delay: 75ns; On-State Resistance: 180R; Turn-On Delay Time: 300ns; Turn-Off Delay Time: 290ns; Logic Function: Demultiplexer,Multiplexer; Operating Supply Current: 8uA; Supply Type: Single; Low Level Output Current: 25mA; ComponentLink1URL: http://www.ti.com/lit/ds/symlink/cd74hc4067.pdf; ComponentLink1Description: http://www.ti.com/lit/ds/symlink/cd74hc4067.pdf; Supplier 1: Digi-Key; Stock 1: 10305; Pricing 1: 1 = 0.80000, 10 = 0.70400, 100 = 0.53940, 500 = 0.42642, 1000 = 0.34114 (USD); RoHS: Yes; Mount: Surface Mount; Case/Package: SOIC; Number of Pins: 24; Weight: 0.022025oz; Contact Plating: Matte,Tin; Min Operating Temperature: -55°C; Max Operating Temperature: 125°C; Number of Outputs: 1; Packaging: Tape and Reel; Package Quantity: 2000; Number of Circuits: 1; Nominal Supply Current: 8uA; Number of Bits: 16; High Level Output Current: 25mA; Length: 15.4mm; Height: 2.35mm; Width: 7.52mm; Radiation Hardening: No; REACH SVHC: No SVHC; Lead Free: Lead Free; ComponentLink2URL: https://www.verical.com/server-webapp/html/getDatasheet?partID=322813&src-supplier=Verical; ComponentLink2Description: https://www.verical.com/server-webapp/html/getDatasheet?partID=322813&src-supplier=Verical; ComponentLink3URL: http://focus.ti.com/lit/ds/symlink/cd74hc4067.pdf?src-supplier=Avnet+Europe; ComponentLink3Description: http://focus.ti.com/lit/ds/symlink/cd74hc4067.pdf?src-supplier=Avnet+Europe; ComponentLink4URL: http://www.ti.com/lit/ds/symlink/cd74hc4067.pdf?src-supplier=Digi-Key; ComponentLink4Description: http://www.ti.com/lit/ds/symlink/cd74hc4067.pdf?src-supplier=Digi-Key
footprint SOP127P1030X265-24N (SOP, 24-Leads, Body 15.40x7.50mm, Pitch 1.27mm, IPC Medium Density)
pins: 1 OUT (out), 2 I7 (in), 3 I6 (in), 4 I5 (in), 5 I4 (in), 6 I3 (in), 7 I2 (in), 8 I1 (in), 9 I0 (in), 10 S0 (in), 11 S1 (in), 12 GND (power), 13 S3 (in), 14 S2 (in), 15 ~{E} (in), 16 I15 (in), 17 I14 (in), 18 I13 (in), 19 I12 (in), 20 I11 (in), 21 I10 (in), 22 I9 (in), 23 I8 (in), 24 VCC (power)

## IC MUX/DEMUX 4-BIT 1-OF-2 16-TSSOP
designator U?  Manufacturer Part Number: SN74CBTLV3257PWR  (hidden comment: *)
TEXAS INSTRUMENTS         SN74CBTLV3257PWR            1 TO 2 QUAD FET MUX/DEMUX, TSSOP-16; Number of Channels: 4; Min Supply Voltage: 2.3V; Max Supply Voltage: 3.6V; Bandwidth: 200MHz; Propagation Delay: 0.25ns; Number of Inputs: 8; Logic Function: Multiplexer,Demultiplexer; Number of Elements: 1; On-State Resistance: 40R; Operating Supply Current: 10uA; High Level Output Current: -128mA; Low Level Output Current: 128mA; Turn-On Delay Time: 6.1ns; Supply Type: Single; Polarity: Non-Inverting; Throw Configuration: SPDT; Supplier 1: Digi-Key; Manufacturer: Texas Instruments; RoHS: Yes; Category: Decoders, Multiplexers; Stock 1: 31974; Pricing 1: 1=0.71000, 10=0.62900, 25=0.59080, 100=0.48210, 250=0.44780, 500=0.38110, 1000=0.30488 (USD); Mount: Surface Mount; Case/Package: TSSOP; Number of Pins: 16; Weight: 0.002081oz; Contact Plating: Gold; Min Operating Temperature: -40°C; Max Operating Temperature: 85°C; Package Quantity: 1; Packaging: Tape and Reel; Number of Outputs: 4; Number of Bits: 8; Quiescent Current: 10uA; Independent Circuits: 1; Length: 5mm; Height: 1.15mm; Width: 4.4mm; Radiation Hardening: No; REACH SVHC: No SVHC; Lead Free: Lead Free; ComponentLink1URL: https://datasheet.ciiva.com/15096/getdatasheetpartid-475832-15096886.pdf?src-supplier=Verical; ComponentLink1Description: https://datasheet.ciiva.com/15096/getdatasheetpartid-475832-15096886.pdf?src-supplier=Verical; ComponentLink2URL: https://datasheet.ciiva.com/34301/914507-34301751.pdf?src-supplier=Jameco; ComponentLink2Description: https://datasheet.ciiva.com/34301/914507-34301751.pdf?src-supplier=Jameco; ComponentLink3URL: https://datasheet.ciiva.com/26866/sn74cbtlv3257pwr-26866949.pdf?src-supplier=IIIC; ComponentLink3Description: https://datasheet.ciiva.com/26866/sn74cbtlv3257pwr-26866949.pdf?src-supplier=IIIC; ComponentLink4URL: https://datasheet.ciiva.com/41457/001016561-da-01-en-ic-4b-1of-sn74cbtlv3257pwr-tssop-16-tid-41457145.pdf?src-supplier=Conrad; ComponentLink4Description: https://datasheet.ciiva.com/41457/001016561-da-01-en-ic-4b-1of-sn74cbtlv3257pwr-tssop-16-tid-41457145.pdf?src-supplier=Conrad; ComponentLink5URL: https://datasheet.ciiva.com/1888/sn74cbtlv3257-1888771.pdf?src-supplier=Digi-Key; ComponentLink5Description: https://datasheet.ciiva.com/1888/sn74cbtlv3257-1888771.pdf?src-supplier=Digi-Key; ComponentLink6URL: https://datasheet.ciiva.com/1888/sn74cbtlv3257-1888772.pdf?src-supplier=Digi-Key; ComponentLink6Description: https://datasheet.ciiva.com/1888/sn74cbtlv3257-1888772.pdf?src-supplier=Digi-Key; ComponentLink7URL: https://datasheet.ciiva.com/1509/1634002-1509116.pdf?src-supplier=Element14; ComponentLink7Description: https://datasheet.ciiva.com/1509/1634002-1509116.pdf?src-supplier=Element14; ComponentLink8URL: https://datasheet.ciiva.com/3169/sn74cbtlv3257-3169116.pdf?src-supplier=Avnet; ComponentLink8Description: https://datasheet.ciiva.com/3169/sn74cbtlv3257-3169116.pdf?src-supplier=Avnet; ComponentLink9URL: https://datasheet.ciiva.com/25917/sn74cbtlv3257-25917342.pdf?src-supplier=Avnet+Europe; ComponentLink9Description: https://datasheet.ciiva.com/25917/sn74cbtlv3257-25917342.pdf?src-supplier=Avnet+Europe; ComponentLink10URL: https://datasheet.ciiva.com/3169/sn74cbtlv3257-3169117.pdf?src-supplier=Avnet; ComponentLink10Description: https://datasheet.ciiva.com/3169/sn74cbtlv3257-3169117.pdf?src-supplier=Avnet; ComponentLink11URL: https://datasheet.ciiva.com/1888/sn74cbtlv3257-1888773.pdf?src-supplier=Digi-Key; ComponentLink11Description: https://datasheet.ciiva.com/1888/sn74cbtlv3257-1888773.pdf?src-supplier=Digi-Key; ComponentLink12URL: https://datasheet.ciiva.com/46395/1882419-46395595.pdf?src-supplier=Element14; ComponentLink12Description: https://datasheet.ciiva.com/46395/1882419-46395595.pdf?src-supplier=Element14; Supplier Part Number 1: 296-9138-1-ND
footprint TSOP65P640X120-16N (TSOP, 16-Leads, Body 5.00x4.40mm, Pitch 0.65mm, IPC Medium Density)
part A pins: 2 1B1, 3 1B2, 4 1A, 5 2B1, 6 2B2, 7 2A, 9 3A, 10 3B2, 11 3B1, 12 4A, 13 4B2, 14 4B1
part B pins: 1 SELECT, 8 GND, 15 ~{OE}, 16 VCC

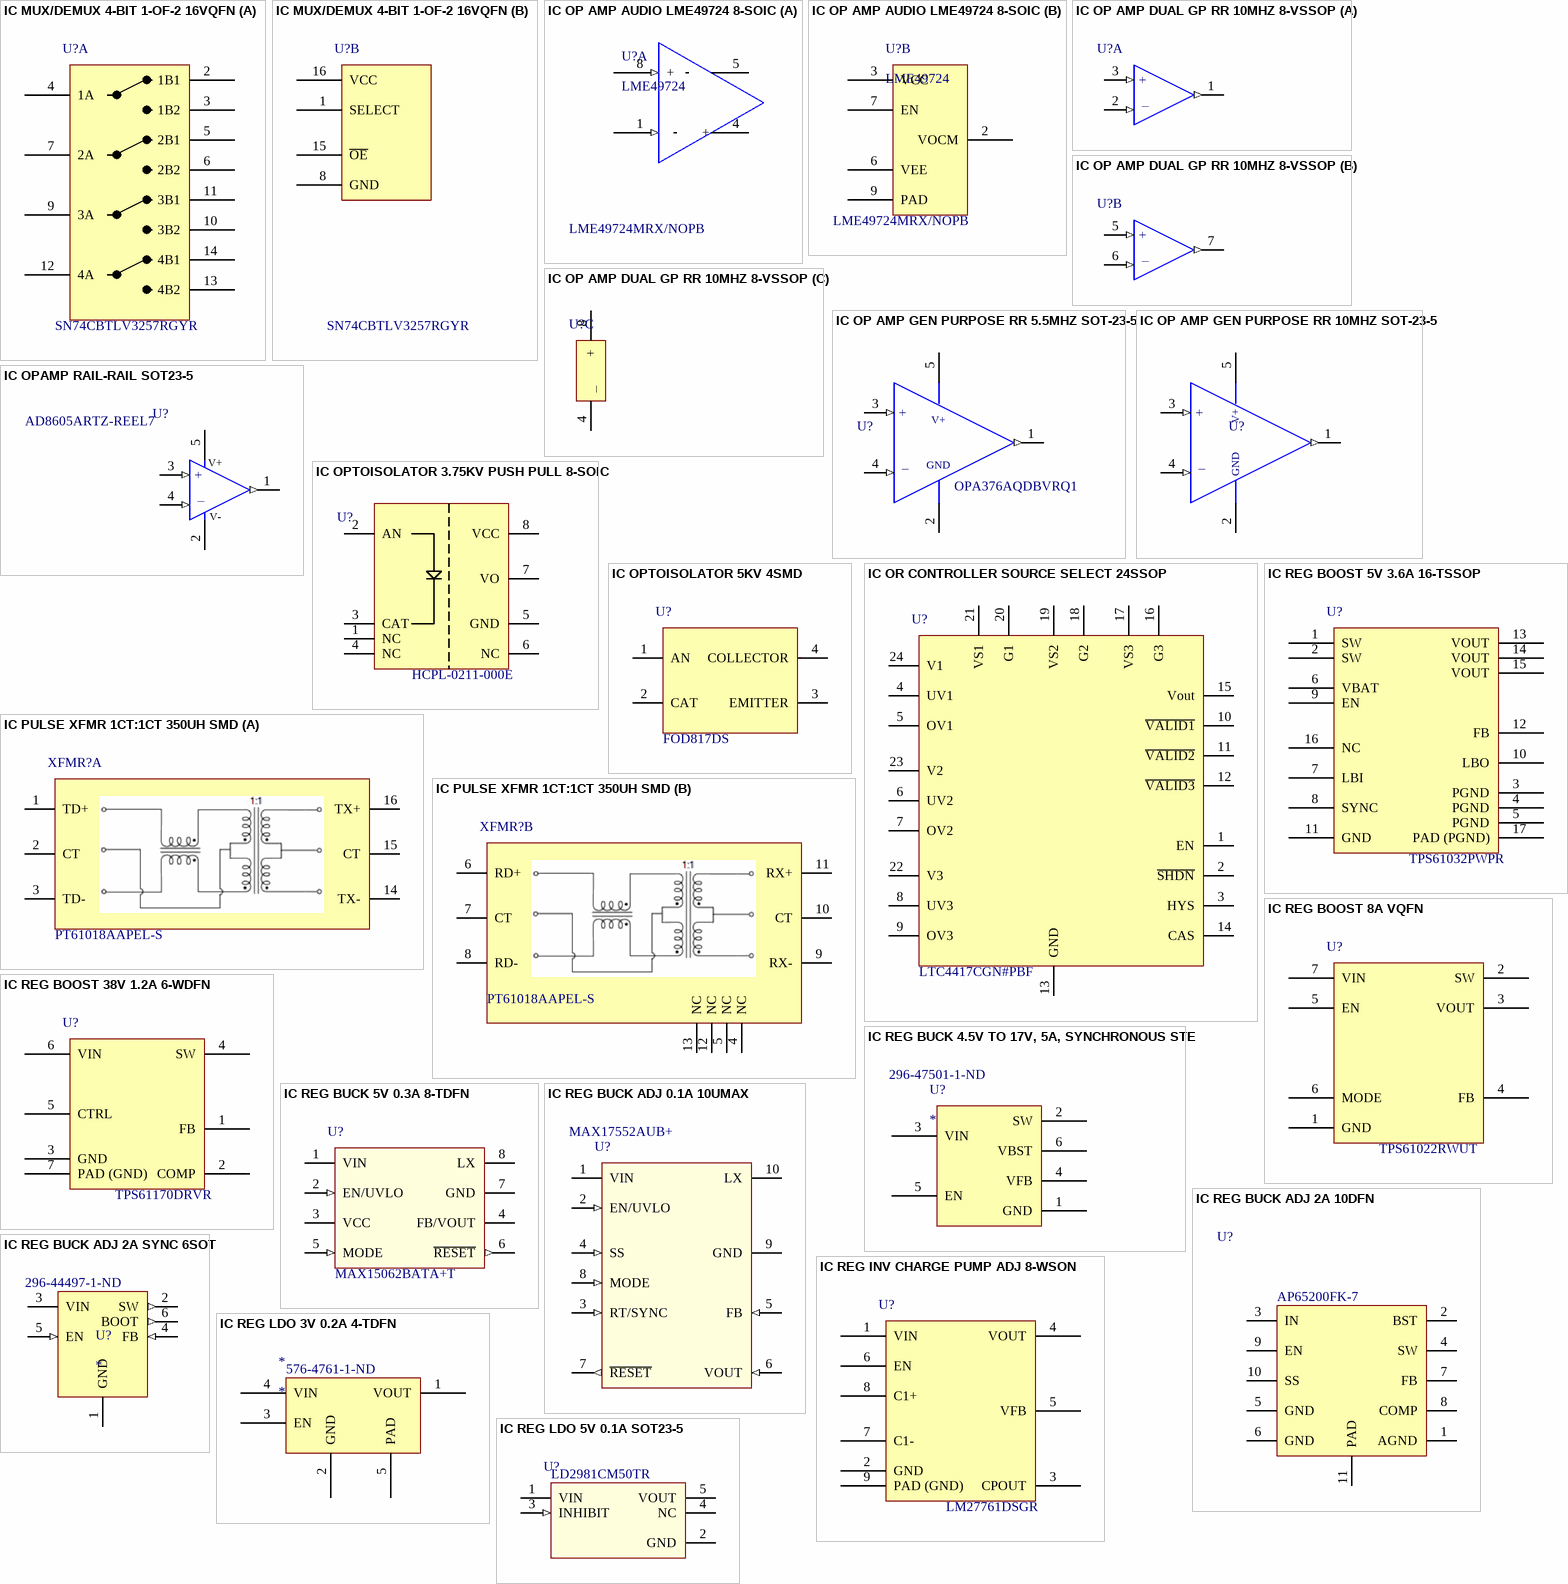
[diagram p9: symbols IC MUX/DEMUX 4-BIT 1-OF-2 16VQFN to IC REG LDO 5V 0.1A SOT23-5]

## IC MUX/DEMUX 4-BIT 1-OF-2 16VQFN
designator U?  Manufacturer Part Number: SN74CBTLV3257RGYR  (hidden comment: *)
IC 4BIT 1-4 FET MUX/DEMUX 16VQFN; Manufacturer: Texas Instruments; Bandwidth: 200MHz; Propagation Delay: 0.25ns; Number of Channels: 4; Min Supply Voltage: 2.3V; Max Supply Voltage: 3.6V; Logic Function: Multiplexer,Demultiplexer; Number of Elements: 1; Number of Inputs: 8; On-State Resistance: 40R; Operating Supply Current: 10uA; High Level Output Current: -128mA; Low Level Output Current: 128mA; Turn-On Delay Time: 6.1ns; Supply Type: Single; Polarity: Non-Inverting; Throw Configuration: SPDT; Supplier 1: Digi-Key; RoHS: Yes; Category: Decoders, Multiplexers; Stock 1: 19542; Pricing 1: 1=0.93000, 10=0.83000, 100=0.64670, 500=0.53426, 1000=0.42179 (USD); Mount: Surface Mount; Case/Package: VQFN; Number of Pins: 16; Weight: 0.001312oz; Contact Plating: Gold; Min Operating Temperature: -40°C; Max Operating Temperature: 85°C; Packaging: Tape and Reel; Package Quantity: 1; Number of Outputs: 4; Number of Bits: 8; Quiescent Current: 10uA; Independent Circuits: 1; Length: 4.15mm; Height: 0.95mm; Width: 3.65mm; Radiation Hardening: No; REACH SVHC: No SVHC; Lead Free: Lead Free; ComponentLink1URL: https://datasheet.ciiva.com/15087/getdatasheetpartid-83228-15087120.pdf?src-supplier=Verical; ComponentLink1Description: https://datasheet.ciiva.com/15087/getdatasheetpartid-83228-15087120.pdf?src-supplier=Verical; ComponentLink2URL: https://datasheet.ciiva.com/22714/1737087-22714731.pdf?src-supplier=Element14; ComponentLink2Description: https://datasheet.ciiva.com/22714/1737087-22714731.pdf?src-supplier=Element14; ComponentLink3URL: https://datasheet.ciiva.com/1889/sn74cbtlv3257-1889050.pdf?src-supplier=Digi-Key; ComponentLink3Description: https://datasheet.ciiva.com/1889/sn74cbtlv3257-1889050.pdf?src-supplier=Digi-Key; ComponentLink4URL: https://datasheet.ciiva.com/25994/sn74cbtlv3257-25994554.pdf?src-supplier=Avnet+Europe; ComponentLink4Description: https://datasheet.ciiva.com/25994/sn74cbtlv3257-25994554.pdf?src-supplier=Avnet+Europe; ComponentLink5URL: https://datasheet.ciiva.com/1889/sn74cbtlv3257-1889051.pdf?src-supplier=Digi-Key; ComponentLink5Description: https://datasheet.ciiva.com/1889/sn74cbtlv3257-1889051.pdf?src-supplier=Digi-Key; ComponentLink6URL: https://datasheet.ciiva.com/1889/sn74cbtlv3257-1889052.pdf?src-supplier=Digi-Key; ComponentLink6Description: https://datasheet.ciiva.com/1889/sn74cbtlv3257-1889052.pdf?src-supplier=Digi-Key; ComponentLink7URL: https://datasheet.ciiva.com/3169/sn74cbtlv3257-3169118.pdf?src-supplier=Avnet; ComponentLink7Description: https://datasheet.ciiva.com/3169/sn74cbtlv3257-3169118.pdf?src-supplier=Avnet; ComponentLink8URL: https://datasheet.ciiva.com/3169/sn74cbtlv3257-3169119.pdf?src-supplier=Avnet; ComponentLink8Description: https://datasheet.ciiva.com/3169/sn74cbtlv3257-3169119.pdf?src-supplier=Avnet; ComponentLink9URL: https://datasheet.ciiva.com/48702/001074837-da-01-en-ic-4bit-1-sn74cbtlv3257rgyr-vqfn-16-tid-48702460.pdf?src-supplier=Conrad; ComponentLink9Description: https://datasheet.ciiva.com/48702/001074837-da-01-en-ic-4bit-1-sn74cbtlv3257rgyr-vqfn-16-tid-48702460.pdf?src-supplier=Conrad; Supplier Part Number 1: 296-15107-1-ND
footprint QFN50P400X350X100_HS-17M (QFN, 16-Leads, Body 4.00x3.50mm, Pitch 0.50mm/1.50mm, Thermal Pad 2.05x2.55mm, IPC Low Density)
part A pins: 2 1B1, 3 1B2, 4 1A, 5 2B1, 6 2B2, 7 2A, 9 3A, 10 3B2, 11 3B1, 12 4A, 13 4B2, 14 4B1
part B pins: 1 SELECT, 8 GND, 15 ~{OE}, 16 VCC

## IC OP AMP AUDIO LME49724 8-SOIC
designator U?, comment LME49724  Manufacturer Part Number: LME49724MRX/NOPB
Audio Amplifier 1 Circuit Differential 8-SO PowerPad; Manufacturer: TI National Semiconductor; Max Supply Voltage: 36V; Min Supply Voltage: 5V; Voltage Gain: 125dB; Unity Gain Bandwidth Product: 50MHz; Slew Rate: 18V/µs; Common Mode Rejection Ratio: 95dB; Min Dual Supply Voltage: 2.5V; Max Dual Supply Voltage: 18V; Output Current: 80mA; Number of Circuits: 1; Input Bias Current: 60nA; Input Offset Voltage (Vos): 200uV; Operating Supply Current: 10mA; Supplier 1: Digi-Key; Supplier Part Number 1: 296-37390-1-ND; Stock 1: 17947; Pricing 1: 1 = 2.67000, 10 = 2.40200, 100 = 1.93060, 500 = 1.58620, 1000 = 1.31428 (USD); RoHS: Yes; Mount: Surface Mount; Number of Pins: 8; Contact Plating: Tin; Min Operating Temperature: -40°C; Max Operating Temperature: 85°C; Packaging: Tape and Reel; Package Quantity: 2500; Gain Bandwidth Product: 50MHz; Output Current per Channel: 80mA; Number of Channels: 1; Number of Elements: 1; Power Supply Rejection Ratio (PSRR): 95dB; Radiation Hardening: No; Lead Free: Lead Free; ComponentLink1URL: https://datasheet.ciiva.com/29638/lme49724-29638149.pdf?src-supplier=Digi-Key; ComponentLink1Description: https://datasheet.ciiva.com/29638/lme49724-29638149.pdf?src-supplier=Digi-Key; ComponentLink2URL: https://datasheet.ciiva.com/29638/lme49724-29638731.pdf?src-supplier=Digi-Key; ComponentLink2Description: https://datasheet.ciiva.com/29638/lme49724-29638731.pdf?src-supplier=Digi-Key; ComponentLink3URL: https://datasheet.ciiva.com/1818/lme49724-1818445.pdf?src-supplier=Digi-Key; ComponentLink3Description: https://datasheet.ciiva.com/1818/lme49724-1818445.pdf?src-supplier=Digi-Key
footprint IC OP AMP AUDIO LME49724 8-SOIC
part A pins: 1 - (in), 4 +, 5 -, 8 + (in)
part B pins: 2 VOCM, 3 VCC, 6 VEE, 7 EN, 9 PAD

## IC OP AMP DUAL GP RR 10MHZ 8-VSSOP
designator U?  (value not drawn)
General Purpose Amplifier 2 Circuit Rail-to-Rail 8-VSSOP; Manufacturer: Texas Instruments; Manufacturer Part Number: OPA2197IDGKR; Number of Circuits: 2; Slew Rate: 20V/µs; Gain Bandwidth Product: 10MHz; Input Bias Current: 5pA; Input Offset Voltage (Vos): 250uV; Operating Supply Current: 1mA; Output Current per Channel: 65mA; Supplier 1: Digi-Key; Stock 1: 2171; Pricing 1: 1=2.41, 10=2.162, 100=1.7376, 500=1.4276, 1000=1.1829 (USD); Mount: Surface Mount; Case/Package: VSSOP; Min Operating Temperature: -40°C; Max Operating Temperature: 125°C; Packaging: Tape and Reel; Number of Channels: 2; Lead Free: Lead Free; ComponentLink1URL: http://www.ti.com/lit/ds/symlink/opa2197.pdf; ComponentLink1Description: http://www.ti.com/lit/ds/symlink/opa2197.pdf; Supplier Part Number 1: 296-47349-1-ND
footprint IC DUAL OPAMP OPA2197 8-VSSOP (TSOP, 8-Leads, Body 3.00x3.00mm, Pitch 0.65mm, IPC Medium Density)
part A pins: 1 OUT A (out), 2 -IN A (in), 3 +IN A (in)
part B pins: 5 +IN B (in), 6 -IN B (in), 7 OUT B (out)
part C pins: 4 _ (power) "0", 8 + (power)

## IC OP AMP GEN PURPOSE RR 5.5MHZ SOT-23-5
designator U?  Manufacturer Part Number: OPA376AQDBVRQ1  (hidden comment: *)
General Purpose Amplifier 1 Circuit Rail-to-Rail SOT-23-5; Manufacturer: Texas Instruments; Unity Gain Bandwidth Product: 5.5MHz; Max Supply Voltage: 5.5V; Min Supply Voltage: 2.2V; Output Current: 30mA; Nominal Supply Current: 950uA; Voltage Gain: 134dB; Common Mode Rejection Ratio: 76dB; Number of Channels: 1; Slew Rate: 2V/µs; Max I/O Voltage: 25uV; Input Bias Current: 10pA; Operating Supply Current: 760uA; Output Current per Channel: 50mA; Power Supply Rejection Ratio (PSRR): 106.02dB; Supplier 1: Digi-Key; Stock 1: 26635; Pricing 1: 1 = 2.14000, 10 = 1.92200, 100 = 1.54450, 500 = 1.26896, 1000 = 1.05142 (USD); RoHS: Yes; Case/Package: SOT-23-5; Number of Pins: 5; Min Operating Temperature: -40°C; Max Operating Temperature: 125°C; Packaging: Tape and Reel; Package Quantity: 3000; Number of Circuits: 1; Gain Bandwidth Product: 5.5MHz; Input Offset Voltage (Vos): 25uV; Number of Elements: 1; Radiation Hardening: No; Lead Free: Lead Free; ComponentLink1URL: http://www.ti.com/lit/ds/sbos549/sbos549.pdf?src-supplier=Avnet; ComponentLink1Description: http://www.ti.com/lit/ds/sbos549/sbos549.pdf?src-supplier=Avnet; Supplier Part Number 1: 296-36701-1-ND
footprint IC OP AMP GP RR 10MHZ SOT-23-5 (SOT23, 5-Leads, Body 2.90x2.80mm, Pitch 0.95mm, IPC Medium Density)
pins: 1 OUTPUT (out), 2 VSS (power), 3 +IN (in), 4 -IN (in), 5 VDD (power)
text: +; V+; GND; _

## IC OP AMP GEN PURPOSE RR 10MHZ SOT-23-5
designator U?  (value not drawn)
General Purpose Amplifier 1 Circuit Rail-to-Rail SOT-23-5; Manufacturer 1: Texas Instruments; Manufacturer Part Number 1: TLV316QDBVRQ1; Description 1: IC OP AMP GP RR 10MHZ 5-SOT-23; Number of Circuits: 1; Slew Rate: 6 V/µs; Current - Supply: 400µA; Current - Output / Channel: 50mA; Voltage - Supply, Single/Dual (±): 1.8 V ~ 5.5 V, ±0.9 V ~ 2.75 V; Supplier 1: Digi-Key; Supplier Part Number 1: 296-45323-1-ND; RoHS: RoHS Compliant; Category: Integrated Circuits (ICs); Stock 1: 1747; Pricing 1: 1=1.33, 10=1.185, 100=0.9234, 500=0.76276, 1000=0.60218 (CAD); Packaging: Cut Tape (CT); Part Status: Active; Amplifier Type: General Purpose; Output Type: Rail-to-Rail; -3db Bandwidth: -; Operating Temperature: -40°C ~ 125°C; Mounting Type: Surface Mount; Package / Case: SC-74A, SOT-753; Supplier Device Package: SOT-23-5; ComponentLink1URL: http://www.ti.com/lit/ds/symlink/tlv316-q1.pdf; ComponentLink1Description: http://www.ti.com/lit/ds/symlink/tlv316-q1.pdf
footprint IC OP AMP GP RR 10MHZ SOT-23-5 (SOT23, 5-Leads, Body 2.90x2.80mm, Pitch 0.95mm, IPC Medium Density)
pins: 1 OUTPUT (out), 2 VSS (power), 3 +IN (in), 4 -IN (in), 5 VDD (power)
text: V+; +; GND; _

## IC OPAMP RAIL-RAIL SOT23-5
designator U?  Manufacturer Part Number 1: AD8605ARTZ-REEL7
General Purpose Amplifier 1 Circuit Rail-to-Rail SOT-23-5; Manufacturer 1: Analog Devices Inc.; Number of Circuits: 1; Slew Rate: 5 V/µs; Current - Supply: 1mA; Current - Output / Channel: 80mA; Voltage - Supply, Single/Dual (±): 2.7 V ~ 5.5 V; Supplier 1: Digi-Key; Supplier Part Number 1: AD8605ARTZREEL7CT-ND; Packaging: Cut Tape (CT); Part Status: Active; Amplifier Type: General Purpose; Output Type: Rail-to-Rail; -3db Bandwidth: -; Operating Temperature: -40°C ~ 125°C; Mounting Type: Surface Mount; Package / Case: SC-74A, SOT-753; Supplier Device Package: SOT-23-5; ComponentLink1URL: http://www.analog.com/media/en/technical-documentation/data-sheets/AD8605_8606_8608.pdf; ComponentLink1Description: http://www.analog.com/media/en/technical-documentation/data-sheets/AD8605_8606_8608.pdf
pins: 1 OUT (out), 2 V- (power), 3 +IN (in), 4 -IN (in), 5 V+ (power)
text: +; _

## IC OPTOISOLATOR 3.75KV PUSH PULL 8-SOIC
designator U?  Manufacturer Part Number: HCPL-0211-000E  (hidden comment: *)
Logic Output Optoisolator 5MBd Push-Pull, Totem Pole 3750Vrms 1 Channel 5kV/µs, 10kV/µs CMTI 8-SO Tall; Manufacturer: Broadcom Avago; Forward Voltage: 1.7V; Propagation Delay: 300ns; Number of Channels: 1; Output Current per Channel: 25mA; Isolation Voltage: 3.75kV; Forward Current: 10mA; Reverse Breakdown Voltage: 5V; Direction: Unidirectional; Max Power Dissipation: 210mW; Rise Time: 30ns; Fall Time: 7ns; Data Rate: 5Mbps; Input Current: 5mA; Min Supply Voltage: 4.5V; Max Supply Voltage: 20V; Approvals: CSA,UL,VDE; Supplier 1: Digi-Key; Supplier Part Number 1: 516-1625-5-ND; RoHS: Yes; Stock 1: 3605; Mount: Surface Mount,Through Hole; Case/Package: SOIC; Number of Pins: 8; Contact Plating: Matte,Tin; Min Operating Temperature: -40°C; Max Operating Temperature: 85°C; Packaging: Rail/Tube; Turn-On Delay Time: 300ns; Output Current: 25mA; Max Output Current: 25mA; Package Quantity: 100; Number of Elements: 1; Power Dissipation: 210mW; Max Input Current: 10mA; Max Output Voltage: 20V; Radiation Hardening: No; REACH SVHC: No SVHC; Lead Free: Lead Free; ComponentLink1URL: http://uk.rs-online.com/webdocs/0ad5/0900766b80ad5e24.pdf; ComponentLink1Description: http://uk.rs-online.com/webdocs/0ad5/0900766b80ad5e24.pdf; ComponentLink2URL: https://www.verical.com/server-webapp/html/getDatasheet?partID=117687; ComponentLink2Description: https://www.verical.com/server-webapp/html/getDatasheet?partID=117687; ComponentLink3URL: http://datasheet.iiic.cc/avago_technologies/HCPL-0211-000E.pdf; ComponentLink3Description: http://datasheet.iiic.cc/avago_technologies/HCPL-0211-000E.pdf; ComponentLink4URL: https://produktinfo.conrad.com/datenblaetter/125000-149999/140038-da-01-en-OPTOKOPPLER_HCPL_0211_000E.pdf; ComponentLink4Description: https://produktinfo.conrad.com/datenblaetter/125000-149999/140038-da-01-en-OPTOKOPPLER_HCPL_0211_000E.pdf
footprint IC OPTOISOLATOR HCPL-0211 SO-8 (SOIC, 8-Leads, Body 5.08x3.94mm, Pitch 1.27mm, IPC Medium Density)
pins: 1 NC, 2 AN, 3 CAT, 4 NC, 5 GND, 6 NC, 7 VO, 8 VCC

## IC OPTOISOLATOR 5KV 4SMD
designator U?  Manufacturer Part Number 1: FOD817DS
Optoisolator Transistor Output 5000Vrms 1 Channel 4-SMD; Manufacturer 1: Fairchild/ON Semiconductor; Number of Channels: 1; Current Transfer Ratio (Min): 300% @ 5mA; Current Transfer Ratio (Max): 600% @ 5mA; Rise / Fall Time (Typ): 4µs, 3µs; Input Type: DC; Voltage - Output (Max): 70V; Current - Output / Channel: 50mA; Voltage - Forward (Vf) (Typ): 1.2V; Vce Saturation (Max): 200mV; Supplier 1: Digi-Key; Supplier Part Number 1: FOD817DS-ND; Packaging: Tube; Part Status: Active; Turn On / Turn Off Time (Typ): -; Output Type: Transistor; Current - DC Forward (If) (Max): 50mA; Operating Temperature: -55°C ~ 110°C; Mounting Type: Surface Mount; Package / Case: 4-SMD, Gull Wing; Supplier Device Package: 4-SMD; ComponentLink1URL: https://www.fairchildsemi.com/datasheets/FO/FOD817D.pdf; ComponentLink1Description: https://www.fairchildsemi.com/datasheets/FO/FOD817D.pdf; Voltage - Isolation: 5000Vrms
footprint IC, Optoisolator, FOD817DS
pins: 1 AN, 2 CAT, 3 EMITTER, 4 COLLECTOR

## IC OR CONTROLLER SOURCE SELECT 24SSOP
designator U?  Manufacturer Part Number 1: LTC4417CGN#PBF
OR Controller Source Selector Switch P-Channel 3:1 24-SSOP; Manufacturer 1: Linear Technology; Internal Switch(s): No; Current - Supply: 28µA; Voltage - Supply: 2.5 V ~ 36 V; Supplier 1: Digi-Key; Supplier Part Number 1: LTC4417CGN#PBF-ND; Packaging: Tube; Part Status: Active; Type: Source Selector Switch; FET Type: P-Channel; Ratio - Input:Output: 3:1; Current - Output (Max): -; Operating Temperature: 0°C ~ 70°C; Mounting Type: Surface Mount; Package / Case: 24-SSOP (0.154", 3.90mm Width); Supplier Device Package: 24-SSOP; ComponentLink1URL: http://www.linear.com/docs/42408; ComponentLink1Description: http://www.linear.com/docs/42408
footprint SSOP-24_GN
pins: 1 EN, 2 ~{SHDN}, 3 HYS, 4 UV1, 5 OV1, 6 UV2, 7 OV2, 8 UV3, 9 OV3, 10 ~{VALID1}, 11 ~{VALID2}, 12 ~{VALID3}, 13 GND, 14 CAS, 15 Vout, 16 G3, 17 VS3, 18 G2, 19 VS2, 20 G1, 21 VS1, 22 V3, 23 V2, 24 V1

## IC PULSE XFMR 1CT:1CT 350UH SMD
designator XFMR?  MFG_PN: PT61018AAPEL-S
PULSE XFMR 1CT:1CT 350UH SMD; Manufacturer: Bourns Inc.; Isolation Voltage: 1.5kVrms; Supplier: Digikey; Supplier_PN: PT61018AAPEL-SCT-ND; Inductance: 350uH; Supplier 1: Digi-Key; Supplier Part Number 1: PT61018AAPEL-SCT-ND
footprint IC, PULSE XFMR 1CT:1CT 350UH SMD (PULSE XFMR 1CT:1CT 350UH SMD)
part A pins: 1 TD+, 2 CT, 3 TD-, 14 TX-, 15 CT, 16 TX+
part B pins: 4 NC, 5 NC, 6 RD+, 7 CT, 8 RD-, 9 RX-, 10 CT, 11 RX+, 12 NC, 13 NC

## IC REG BOOST 5V 3.6A 16-TSSOP
designator U?  Manufacturer Part Number: TPS61032PWPR  (hidden comment: *)
Boost Switching Regulator IC Positive Fixed 5V 1 Output 3.6A (Switch) 16-PowerTSSOP (0.173", 4.40mm Width); Manufacturer: Texas Instruments; Output Current: 1A; Operating Supply Voltage: 5.5V; Min Input Voltage: 1.8V; Number of Outputs: 1; Efficiency: 96%; Switching Frequency: 600kHz; Synchronous Rectifier: Yes; Quiescent Current: 20uA; Current Rating: 20mA; Supplier 1: Digi-Key; Supplier Part Number 1: 296-14418-1-ND; Stock 1: 5321; Pricing 1: 1 = 2.76000, 10 = 2.48100, 100 = 2.03260, 500 = 1.73032, 1000 = 1.45930 (USD); RoHS: Yes; Mount: Surface Mount; Case/Package: HTSSOP EP; Number of Pins: 16; Weight: 0.002212oz; Min Operating Temperature: -40°C; Max Operating Temperature: 85°C; Output Voltage: 5V; Package Quantity: 1; Max Input Voltage: 5.5V; Packaging: Tape and Reel; Max Output Current: 1A; Nominal Output Voltage: 5V; Min Output Voltage: 5V; Topology: Boost; Output Type: Fixed; Output Configuration: Positive; Width: 4.4mm; Radiation Hardening: No; REACH SVHC: No SVHC; Lead Free: Lead Free; ComponentLink1URL: https://datasheet.ciiva.com/15113/getdatasheetpartid-188303-15113715.pdf?src-supplier=Verical; ComponentLink1Description: https://datasheet.ciiva.com/15113/getdatasheetpartid-188303-15113715.pdf?src-supplier=Verical; ComponentLink2URL: https://datasheet.ciiva.com/26896/tps61032pwpr-26896609.pdf?src-supplier=IIIC; ComponentLink2Description: https://datasheet.ciiva.com/26896/tps61032pwpr-26896609.pdf?src-supplier=IIIC; ComponentLink3URL: https://datasheet.ciiva.com/2026/tps61030-2026195.pdf?src-supplier=Digi-Key; ComponentLink3Description: https://datasheet.ciiva.com/2026/tps61030-2026195.pdf?src-supplier=Digi-Key; ComponentLink4URL: https://datasheet.ciiva.com/2026/tps61030-2026196.pdf?src-supplier=Digi-Key; ComponentLink4Description: https://datasheet.ciiva.com/2026/tps61030-2026196.pdf?src-supplier=Digi-Key; ComponentLink5URL: https://datasheet.ciiva.com/2026/tps61030-2026197.pdf?src-supplier=Digi-Key; ComponentLink5Description: https://datasheet.ciiva.com/2026/tps61030-2026197.pdf?src-supplier=Digi-Key; ComponentLink6URL: https://datasheet.ciiva.com/49118/1864381-49118279.pdf?src-supplier=Element14; ComponentLink6Description: https://datasheet.ciiva.com/49118/1864381-49118279.pdf?src-supplier=Element14
footprint IC REG BOOST 5V 3.6A 16-TSSOP
pins: 1 SW, 2 SW, 3 PGND, 4 PGND, 5 PGND, 6 VBAT, 7 LBI, 8 SYNC, 9 EN, 10 LBO, 11 GND, 12 FB, 13 VOUT, 14 VOUT, 15 VOUT, 16 NC, 17 PAD (PGND)

## IC REG BOOST 8A VQFN
designator U?  Manufacturer Part Number: TPS61022RWUT  (hidden comment: *)
Boost Switching Regulator IC Positive Adjustable 2.2V 1 Output 7-VFQFN; Manufacturer: Texas Instruments; Supplier 1: Digi-Key; RoHS: No; Stock 1: 738; Pricing 1: 1=2.00000, 10=1.79600, 25=1.69440, 100=1.35550 (USD); Supplier Part Number 1: 296-TPS61022RWUTCT-ND
footprint IC REG BOOST 8A VQFN=HR
pins: 1 GND, 2 SW, 3 VOUT, 4 FB, 5 EN, 6 MODE, 7 VIN